# EAGLE library part TPS76601_D_8 (library TexasLDOREG)
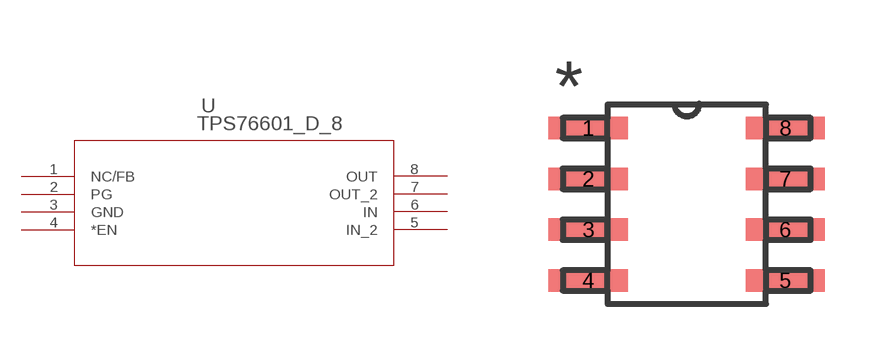
[diagram p0: symbol with the pads of D8; footprint D8]

Designator prefix U

## TPS76601_D_8 (DATASHEETURL: http://www.ti.com/lit/gpn/TPS76601; DESCRIPTION: Single Output LDO, 250mA, Adj.(1.25 to 5.5V), Low Quiescent Current, Power Good (PG) Output; FAMILY_NAME: SINGLE CHANNEL LDO; GENERIC_PART_NUMBER: TPS76601; INDUSTRY_STD_PKG_TYPE: SOIC; MANUFACTURER: Texas Instruments; MANUFACTURER_PART_NUMBER: tps76601_d_8; PACKAGE_DESIGNATOR: D; PIN_COUNT: 8; VENDOR: Texas Instruments)  [D8]
1  NC/FB  in
2  PG  out
3  GND  pwr
4  *EN  in
5  IN_2  in
6  IN  in
7  OUT_2  out
8  OUT  out

## Footprint D8 (pad centres in mm)
smd 1.981 x 0.559: 1 -2.464,1.905; 2 -2.464,0.635; 3 -2.464,-0.635; 4 -2.464,-1.905; 5 2.464,-1.905; 6 2.464,-0.635; 7 2.464,0.635; 8 2.464,1.905